# Altium footprint library 集成块.PcbLib: 44 footprints (part 1 of 3)
Each footprint in its own frame and in the unit in brackets; x right, y up, seen from the top. Pads: shape width x height; smd on the part's side, far side on the other; paste and mask are expansions set on the pad; w line width, h text height; cw(c..) or ccw(c..) is an arc to the next point about the centre after c.
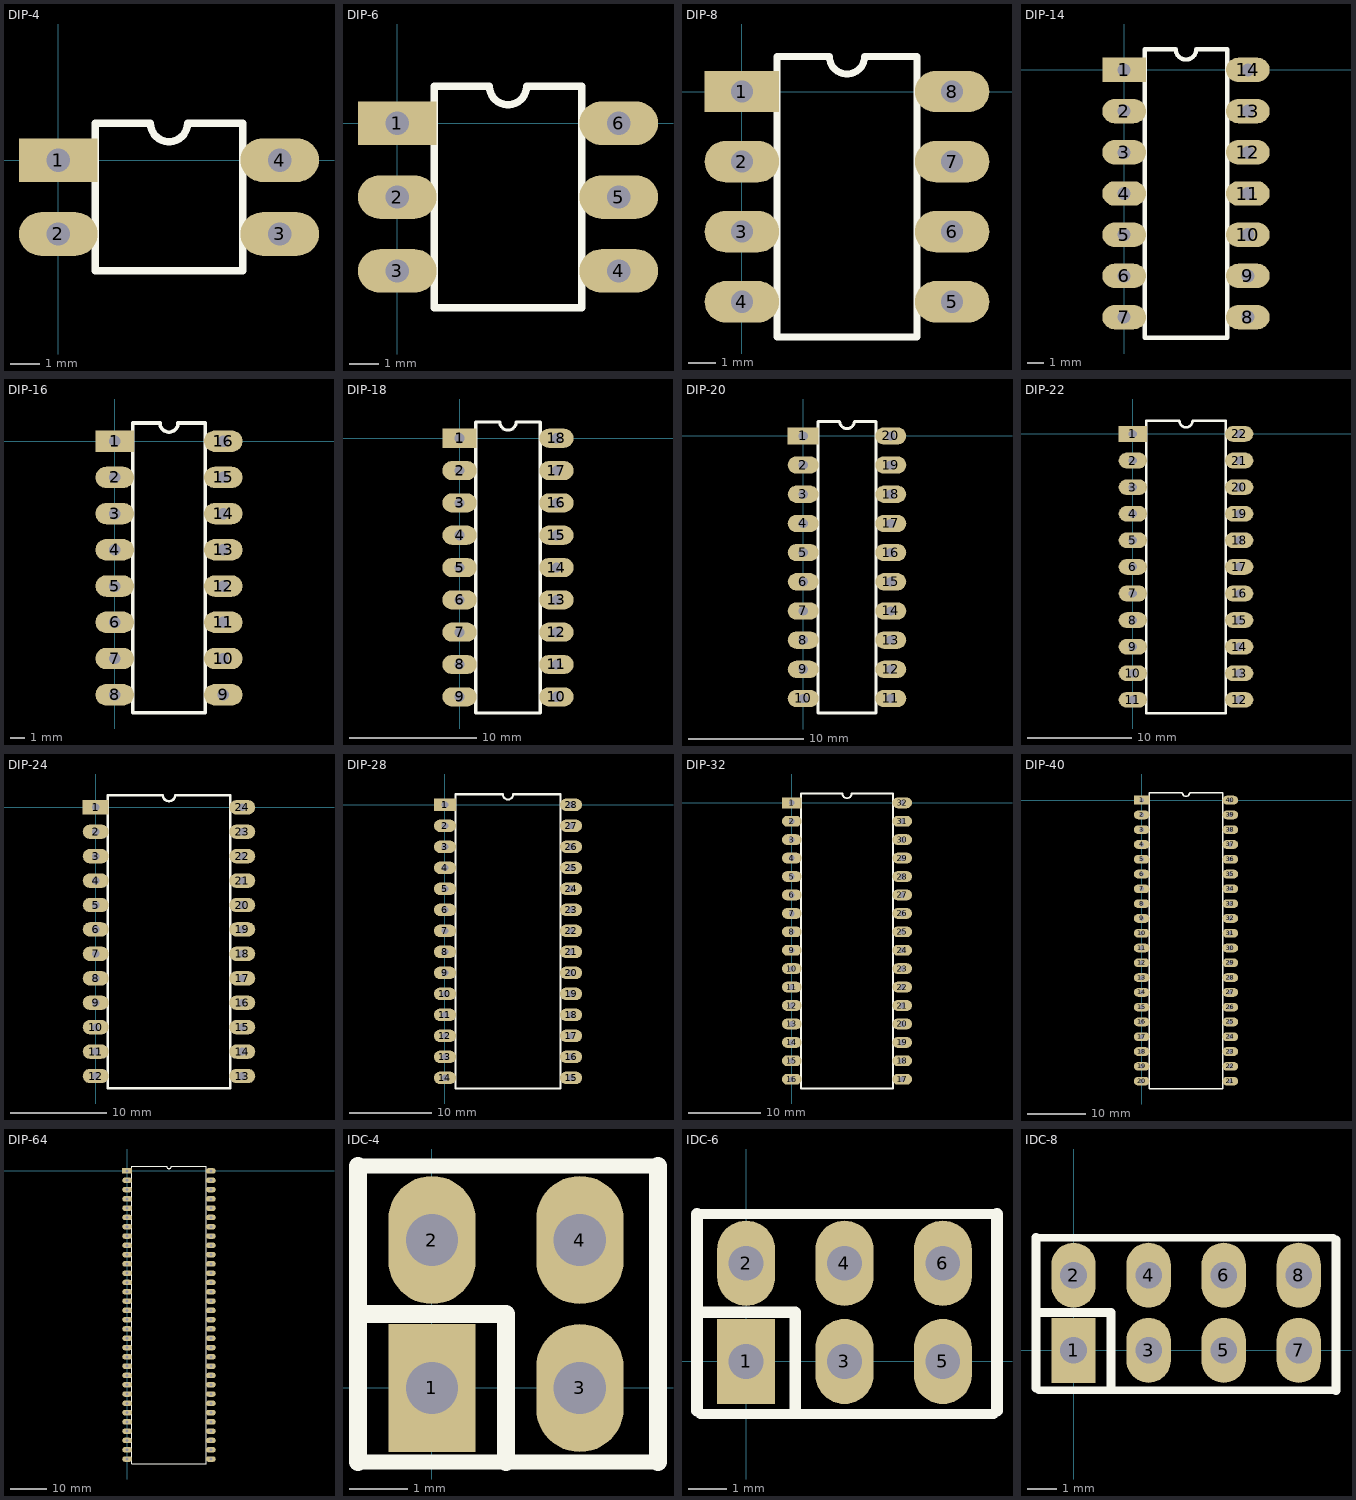
[diagram p0: the footprints below, top view; thin cyan lines are the x and y axes]

## DIP-4 [mm]
pads (4):
  rect 2.7x1.5 hole 0.8: 1(0,0)
  oval 2.7x1.5 hole 0.8: 2(0,-2.54) 3(7.62,-2.54) 4(7.62,0)
TopOverlay:
  lines w0.254: 1.27,-3.81 6.35,-3.81 6.35,1.27 4.445,1.27 cw(c3.81,1.27) 3.175,1.27 1.27,1.27 1.27,-3.81

## DIP-6 [mm]
pads (6):
  rect 2.7x1.5 hole 0.8: 1(0,0)
  oval 2.7x1.5 hole 0.8: 2(0,-2.54) 3(0,-5.08) 4(7.62,-5.08) 5(7.62,-2.54) 6(7.62,0)
TopOverlay:
  lines w0.254: 1.27,-6.35 6.35,-6.35 6.35,1.27 4.445,1.27 cw(c3.81,1.27) 3.175,1.27 1.27,1.27 1.27,-6.35

## DIP-8 [mm]
pads (8):
  rect 2.7x1.5 hole 0.8: 1(0,0)
  oval 2.7x1.5 hole 0.8: 2(0,-2.54) 3(0,-5.08) 4(0,-7.62) 5(7.62,-7.62) 6(7.62,-5.08) 7(7.62,-2.54) 8(7.62,0)
TopOverlay:
  lines w0.254: 1.27,-8.89 1.27,1.27 3.175,1.27 ccw(c3.81,1.27) 4.445,1.27 6.35,1.27 6.35,-8.89 1.27,-8.89

## DIP-14 [mm]
pads (14):
  rect 2.7x1.5 hole 0.8: 1(0,0)
  oval 2.7x1.5 hole 0.8: 2(0,-2.54) 3(0,-5.08) 4(0,-7.62) 5(0,-10.16) 6(0,-12.7) 7(0,-15.24) 8(7.62,-15.24) 9(7.62,-12.7) 10(7.62,-10.16) 11(7.62,-7.62) 12(7.62,-5.08) 13(7.62,-2.54) 14(7.62,0)
TopOverlay:
  lines w0.254: 1.27,-16.51 1.27,1.27 3.175,1.27 ccw(c3.81,1.27) 4.445,1.27 6.35,1.27 6.35,-16.51 1.27,-16.51

## DIP-16 [mm]
pads (16):
  rect 2.7x1.5 hole 0.8: 1(0,0)
  oval 2.7x1.5 hole 0.8: 2(0,-2.54) 3(0,-5.08) 4(0,-7.62) 5(0,-10.16) 6(0,-12.7) 7(0,-15.24) 8(0,-17.78) 9(7.62,-17.78) 10(7.62,-15.24) 11(7.62,-12.7) 12(7.62,-10.16) 13(7.62,-7.62) 14(7.62,-5.08) 15(7.62,-2.54) 16(7.62,0)
TopOverlay:
  lines w0.254: 1.27,-19.05 6.35,-19.05 6.35,1.27 4.445,1.27 cw(c3.81,1.27) 3.175,1.27 1.27,1.27 1.27,-19.05

## DIP-18 [mm]
pads (18):
  rect 2.7x1.5 hole 0.8: 1(0,0)
  oval 2.7x1.5 hole 0.8: 2(0,-2.54) 3(0,-5.08) 4(0,-7.62) 5(0,-10.16) 6(0,-12.7) 7(0,-15.24) 8(0,-17.78) 9(0,-20.32) 10(7.62,-20.32) 11(7.62,-17.78) 12(7.62,-15.24) 13(7.62,-12.7) 14(7.62,-10.16) 15(7.62,-7.62) 16(7.62,-5.08) 17(7.62,-2.54) 18(7.62,0)
TopOverlay:
  lines w0.254: 1.27,-21.59 6.35,-21.59 6.35,1.27 4.445,1.27 cw(c3.81,1.27) 3.175,1.27 1.27,1.27 1.27,-21.59

## DIP-20 [mm]
pads (20):
  rect 2.7x1.5 hole 0.8: 1(0,0)
  oval 2.7x1.5 hole 0.8: 2(0,-2.54) 3(0,-5.08) 4(0,-7.62) 5(0,-10.16) 6(0,-12.7) 7(0,-15.24) 8(0,-17.78) 9(0,-20.32) 10(0,-22.86) 11(7.62,-22.86) 12(7.62,-20.32) 13(7.62,-17.78) 14(7.62,-15.24) 15(7.62,-12.7) 16(7.62,-10.16) 17(7.62,-7.62) 18(7.62,-5.08) 19(7.62,-2.54) 20(7.62,0)
TopOverlay:
  lines w0.254: 1.27,-24.13 6.35,-24.13 6.35,1.27 4.445,1.27 cw(c3.81,1.27) 3.175,1.27 1.27,1.27 1.27,-24.13

## DIP-22 [mm]
pads (22):
  rect 2.7x1.5 hole 0.8: 1(0,0)
  oval 2.7x1.5 hole 0.8: 2(0,-2.54) 3(0,-5.08) 4(0,-7.62) 5(0,-10.16) 6(0,-12.7) 7(0,-15.24) 8(0,-17.78) 9(0,-20.32) 10(0,-22.86) 11(0,-25.4) 12(10.16,-25.4) 13(10.16,-22.86) 14(10.16,-20.32) 15(10.16,-17.78) 16(10.16,-15.24) 17(10.16,-12.7) 18(10.16,-10.16) 19(10.16,-7.62) 20(10.16,-5.08) 21(10.16,-2.54) 22(10.16,0)
TopOverlay:
  lines w0.254: 1.27,-26.67 1.27,1.27 4.445,1.27 ccw(c5.08,1.27) 5.715,1.27 8.89,1.27 8.89,-26.67 1.27,-26.67

## DIP-24 [mm]
pads (24):
  rect 2.7x1.5 hole 0.8: 1(0,0)
  oval 2.7x1.5 hole 0.8: 2(0,-2.54) 3(0,-5.08) 4(0,-7.62) 5(0,-10.16) 6(0,-12.7) 7(0,-15.24) 8(0,-17.78) 9(0,-20.32) 10(0,-22.86) 11(0,-25.4) 12(0,-27.94) 13(15.24,-27.94) 14(15.24,-25.4) 15(15.24,-22.86) 16(15.24,-20.32) 17(15.24,-17.78) 18(15.24,-15.24) 19(15.24,-12.7) 20(15.24,-10.16) 21(15.24,-7.62) 22(15.24,-5.08) 23(15.24,-2.54) 24(15.24,0)
TopOverlay:
  lines w0.254: 1.27,-29.21 13.97,-29.21 13.97,1.27 8.255,1.27 cw(c7.62,1.27) 6.985,1.27 1.27,1.27 1.27,-29.21

## DIP-28 [mm]
pads (28):
  rect 2.7x1.5 hole 0.8: 1(0,0)
  oval 2.7x1.5 hole 0.8: 2(0,-2.54) 3(0,-5.08) 4(0,-7.62) 5(0,-10.16) 6(0,-12.7) 7(0,-15.24) 8(0,-17.78) 9(0,-20.32) 10(0,-22.86) 11(0,-25.4) 12(0,-27.94) 13(0,-30.48) 14(0,-33.02) 15(15.24,-33.02) 16(15.24,-30.48) 17(15.24,-27.94) 18(15.24,-25.4) 19(15.24,-22.86) 20(15.24,-20.32) 21(15.24,-17.78) 22(15.24,-15.24) 23(15.24,-12.7) 24(15.24,-10.16) 25(15.24,-7.62) 26(15.24,-5.08) 27(15.24,-2.54) 28(15.24,0)
TopOverlay:
  lines w0.254: 1.27,-34.29 1.27,1.27 6.985,1.27 ccw(c7.62,1.27) 8.255,1.27 13.97,1.27 13.97,-34.29 1.27,-34.29

## DIP-32 [mm]
pads (32):
  rect 2.7x1.5 hole 0.8: 1(0,0)
  oval 2.7x1.5 hole 0.8: 2(0,-2.54) 3(0,-5.08) 4(0,-7.62) 5(0,-10.16) 6(0,-12.7) 7(0,-15.24) 8(0,-17.78) 9(0,-20.32) 10(0,-22.86) 11(0,-25.4) 12(0,-27.94) 13(0,-30.48) 14(0,-33.02) 15(0,-35.56) 16(0,-38.1) 17(15.24,-38.1) 18(15.24,-35.56) 19(15.24,-33.02) 20(15.24,-30.48) 21(15.24,-27.94) 22(15.24,-25.4) 23(15.24,-22.86) 24(15.24,-20.32) 25(15.24,-17.78) 26(15.24,-15.24) 27(15.24,-12.7) 28(15.24,-10.16) 29(15.24,-7.62) 30(15.24,-5.08) 31(15.24,-2.54) 32(15.24,0)
TopOverlay:
  lines w0.254: 1.27,-39.37 13.97,-39.37 13.97,1.27 8.255,1.27 cw(c7.62,1.27) 6.985,1.27 1.27,1.27 1.27,-39.37

## DIP-40 [mm]
pads (40):
  rect 2.7x1.5 hole 0.8: 1(0,0)
  oval 2.7x1.5 hole 0.8: 2(0,-2.54) 3(0,-5.08) 4(0,-7.62) 5(0,-10.16) 6(0,-12.7) 7(0,-15.24) 8(0,-17.78) 9(0,-20.32) 10(0,-22.86) 11(0,-25.4) 12(0,-27.94) 13(0,-30.48) 14(0,-33.02) 15(0,-35.56) 16(0,-38.1) 17(0,-40.64) 18(0,-43.18) 19(0,-45.72) 20(0,-48.26) 21(15.24,-48.26) 22(15.24,-45.72) 23(15.24,-43.18) 24(15.24,-40.64) 25(15.24,-38.1) 26(15.24,-35.56) 27(15.24,-33.02) 28(15.24,-30.48) 29(15.24,-27.94) 30(15.24,-25.4) 31(15.24,-22.86) 32(15.24,-20.32) 33(15.24,-17.78) 34(15.24,-15.24) 35(15.24,-12.7) 36(15.24,-10.16) 37(15.24,-7.62) 38(15.24,-5.08) 39(15.24,-2.54) 40(15.24,0)
TopOverlay:
  lines w0.254: 1.27,-49.53 13.97,-49.53 13.97,1.27 8.255,1.27 cw(c7.62,1.27) 6.985,1.27 1.27,1.27 1.27,-49.53

## DIP-64 [mm]
pads (64):
  rect 2.7x1.5 hole 0.8: 1(0,0)
  oval 2.7x1.5 hole 0.8: 2(0,-2.54) 3(0,-5.08) 4(0,-7.62) 5(0,-10.16) 6(0,-12.7) 7(0,-15.24) 8(0,-17.78) 9(0,-20.32) 10(0,-22.86) 11(0,-25.4) 12(0,-27.94) 13(0,-30.48) 14(0,-33.02) 15(0,-35.56) 16(0,-38.1) 17(0,-40.64) 18(0,-43.18) 19(0,-45.72) 20(0,-48.26) 21(0,-50.8) 22(0,-53.34) 23(0,-55.88) 24(0,-58.42) 25(0,-60.96) 26(0,-63.5) 27(0,-66.04) 28(0,-68.58) 29(0,-71.12) 30(0,-73.66) 31(0,-76.2) 32(0,-78.74) 33(22.86,-78.74) 34(22.86,-76.2) 35(22.86,-73.66) 36(22.86,-71.12) 37(22.86,-68.58) 38(22.86,-66.04) 39(22.86,-63.5) 40(22.86,-60.96) 41(22.86,-58.42) 42(22.86,-55.88) 43(22.86,-53.34) 44(22.86,-50.8) 45(22.86,-48.26) 46(22.86,-45.72) 47(22.86,-43.18) 48(22.86,-40.64) 49(22.86,-38.1) 50(22.86,-35.56) 51(22.86,-33.02) 52(22.86,-30.48) 53(22.86,-27.94) 54(22.86,-25.4) 55(22.86,-22.86) 56(22.86,-20.32) 57(22.86,-17.78) 58(22.86,-15.24) 59(22.86,-12.7) 60(22.86,-10.16) 61(22.86,-7.62) 62(22.86,-5.08) 63(22.86,-2.54) 64(22.86,0)
TopOverlay:
  lines w0.254: 1.27,-80.01 21.59,-80.01 21.59,1.27 12.065,1.27 cw(c11.43,1.27) 10.795,1.27 1.27,1.27 1.27,-80.01

## IDC-4 [mm]
pads (4):
  rect 1.5x2.2 hole 0.9: 1(0,0)
  oval 1.5x2.2 hole 0.9: 2(0,2.54) 3(2.54,0) 4(2.54,2.54)
TopOverlay:
  lines w0.254: -1.27,-1.27 3.88,-1.27 ; -1.27,3.81 3.88,3.81
  lines w0.305: -1.27,-1.27 -1.27,3.81 ; -1.27,1.27 1.27,1.27 1.27,-1.27 ; 3.88,-1.27 3.88,3.81

## IDC-6 [mm]
pads (6):
  rect 1.5x2.2 hole 0.9: 1(0,0)
  oval 1.5x2.2 hole 0.9: 2(0,2.54) 3(2.54,0) 4(2.54,2.54) 5(5.08,0) 6(5.08,2.54)
TopOverlay:
  lines w0.254: -1.27,-1.27 -1.184,-1.356 6.394,-1.356 6.48,-1.27 ; -1.27,3.81 6.48,3.81
  lines w0.305: -1.27,-1.27 -1.27,3.81 ; -1.27,1.27 1.27,1.27 1.27,-1.27 ; 6.48,-1.27 6.48,3.81

## IDC-8 [mm]
pads (8):
  rect 1.5x2.2 hole 0.9: 1(0,0)
  oval 1.5x2.2 hole 0.9: 2(0,2.54) 3(2.54,0) 4(2.54,2.54) 5(5.08,0) 6(5.08,2.54) 7(7.62,0) 8(7.62,2.54)
TopOverlay:
  lines w0.254: -1.27,-1.27 -1.184,-1.356 8.88,-1.356 ; -1.27,3.81 8.794,3.81 8.88,3.724
  lines w0.305: -1.27,-1.27 -1.27,3.81 ; -1.27,1.27 1.27,1.27 1.27,-1.27 ; 8.88,-1.356 8.88,3.724